# EAGLE library part IRF9393TRPBF (library tm-infineon)
IRF9393PbF HEXFET Power MOSFET Pch High side SW 30 V, 9.2 A, 8-Pin SOIC Infineon RS: 915-4989
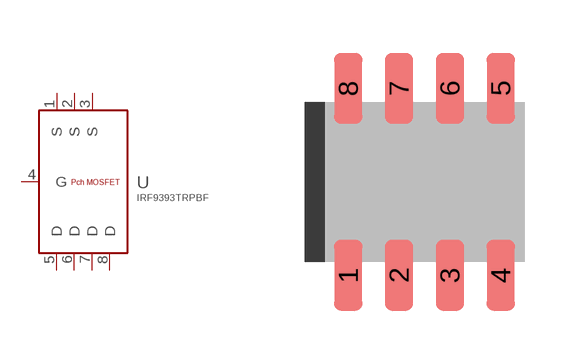
[diagram p0: symbol with the pads of SO-8; footprint SO-8]

Designator prefix U

## IRF9393TRPBF  [SO-8]
1  S
2  S
3  S
4  G
5  D
6  D
7  D
8  D

## Footprint SO-8 (pad centres in mm)
smd 0.711 x 1.778: 1 -1.905,-2.34; 2 -0.635,-2.34; 3 0.635,-2.34; 4 1.905,-2.34; 5 1.905,2.34; 6 0.635,2.34; 7 -0.635,2.34; 8 -1.905,2.34